# Altium footprint library jst_gh.PcbLib: 1 footprints
Each footprint in its own frame and in the unit in brackets; x right, y up, seen from the top. Pads: shape width x height; smd on the part's side, far side on the other; paste and mask are expansions set on the pad; w line width, h text height; cw(c..) or ccw(c..) is an arc to the next point about the centre after c.
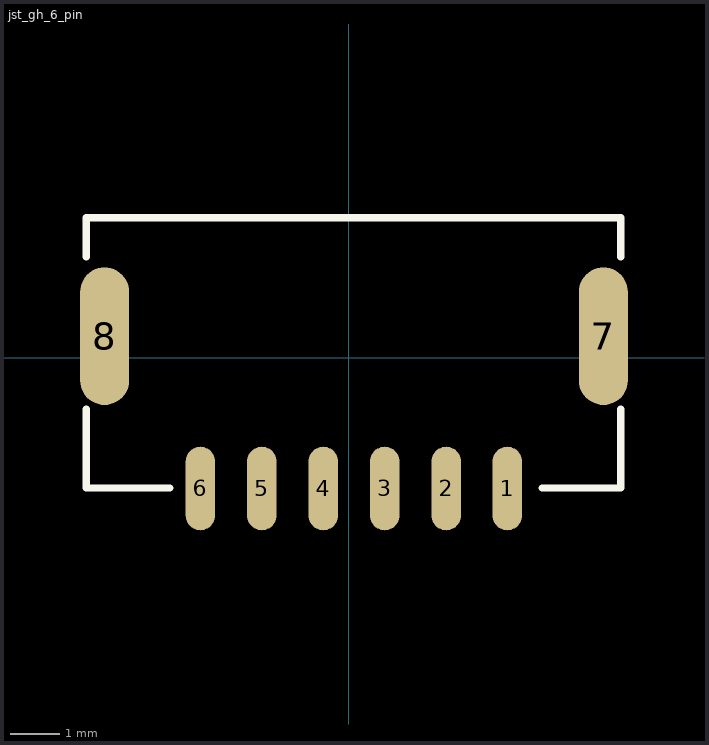
[diagram p0: the footprint, top view; thin cyan lines are the x and y axes]

## jst_gh_6_pin [mm]
pads (8):
  rrect100% 0.6x1.7 smd: 1(3.226,-2.656) 2(1.984,-2.656) 3(0.732,-2.656) 4(-0.518,-2.656) 5(-1.768,-2.656) 6(-3.018,-2.656)
  rrect100% 1x2.8 smd: 7(5.182,0.444) 8(-4.968,0.444)
Top Overlay:
  lines w0.15: -5.343,-1.046 -5.343,-2.646 -3.643,-2.646 ; -5.343,2.054 -5.343,2.854 ; 5.537,-2.646 5.537,-1.046 ; 5.537,2.054 5.537,2.854
  lines w0.152: -5.343,2.854 3.057,2.854 5.537,2.854 ; 3.937,-2.646 5.537,-2.646
3D body: height 4.34, standoff 0, extent -5.238,-2.667 5.491,2.159